# EAGLE library part LAYERONE_2017_STM6600 (library LayerOne_2017)
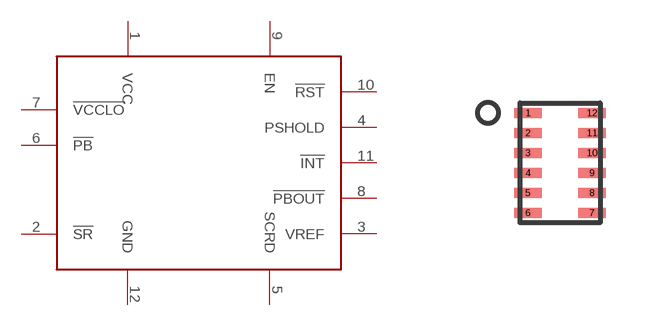
[diagram p1: symbol with the pads of LAYERONE_2017_TDFN12_STM; footprint LAYERONE_2017_TDFN12_STM]

Designator prefix -

## LAYERONE_2017_STM6600  [LAYERONE_2017_TDFN12_STM]
1  VCC
2  !SR
3  VREF
4  PSHOLD
5  SCRD
6  !PB
7  !VCCLO
8  !PBOUT
9  EN
10  !RST
11  !INT
12  GND

## Footprint LAYERONE_2017_TDFN12_STM (pad centres in mm)
smd 0.7 x 0.25: 1 -0.8,1.25; 2 -0.8,0.75; 3 -0.8,0.25; 4 -0.8,-0.25; 5 -0.8,-0.75; 6 -0.8,-1.25; 7 0.8,-1.25; 8 0.8,-0.75; 9 0.8,-0.25; 10 0.8,0.25; 11 0.8,0.75; 12 0.8,1.25